# EAGLE library part N7E50615 (library 3M)
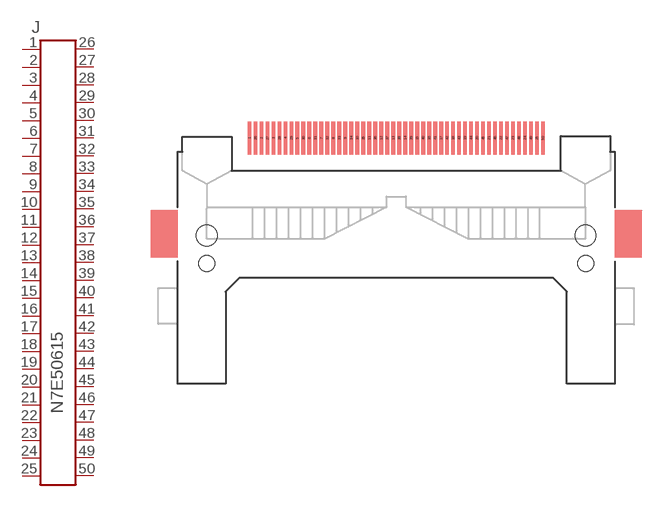
[diagram p0: symbol with the pads of N7E50615; footprint N7E50615]

Designator prefix J

## N7E50615  [N7E50615]
1  1  pas
2  2  pas
3  3  pas
4  4  pas
5  5  pas
6  6  pas
7  7  pas
8  8  pas
9  9  pas
10  10  pas
11  11  pas
12  12  pas
13  13  pas
14  14  pas
15  15  pas
16  16  pas
17  17  pas
18  18  pas
19  19  pas
20  20  pas
21  21  pas
22  22  pas
23  23  pas
24  24  pas
25  25  pas
26  26  pas
27  27  pas
28  28  pas
29  29  pas
30  30  pas
31  31  pas
32  32  pas
33  33  pas
34  34  pas
35  35  pas
36  36  pas
37  37  pas
38  38  pas
39  39  pas
40  40  pas
41  41  pas
42  42  pas
43  43  pas
44  44  pas
45  45  pas
46  46  pas
47  47  pas
48  48  pas
49  49  pas
50  50  pas

## Footprint N7E50615 (pad centres in mm)
smd 0.4 x 3.5: 1 -15.557,10.335; 2 -14.287,10.335; 3 -13.018,10.335; 4 -11.748,10.335; 5 -10.477,10.335; 6 -9.207,10.335; 7 -7.938,10.335; 8 -6.668,10.335; 9 -5.397,10.335; 10 -4.128,10.335; 11 -2.857,10.335; 12 -1.587,10.335; 13 -0.318,10.335; 14 0.953,10.335; 15 2.223,10.335; 16 3.493,10.335; 17 4.763,10.335; 18 6.032,10.335; 19 7.303,10.335; 20 8.572,10.335; 21 9.842,10.335; 22 11.113,10.335; 23 12.383,10.335; 24 13.652,10.335; 25 14.922,10.335; 26 -14.922,10.335; 27 -13.652,10.335; 28 -12.383,10.335; 29 -11.113,10.335; 30 -9.842,10.335; 31 -8.572,10.335; 32 -7.303,10.335; 33 -6.032,10.335; 34 -4.763,10.335; 35 -3.493,10.335; 36 -2.223,10.335; 37 -0.953,10.335; 38 0.318,10.335; 39 1.587,10.335; 40 2.857,10.335; 41 4.128,10.335; 42 5.397,10.335; 43 6.668,10.335; 44 7.938,10.335; 45 9.207,10.335; 46 10.477,10.335; 47 11.748,10.335; 48 13.018,10.335; 49 14.287,10.335; 50 15.557,10.335
hole 1.7 at -20.08,-3
hole 1.7 at 20.08,-3
hole 2.2 at -20.08,0
hole 2.2 at 20.08,0